# Altium footprint library F4SDR.PcbLib: 69 footprints (part 5 of 5)
Each footprint in its own frame and in the unit in brackets; x right, y up, seen from the top. Pads: shape width x height; smd on the part's side, far side on the other; paste and mask are expansions set on the pad; w line width, h text height; cw(c..) or ccw(c..) is an arc to the next point about the centre after c.
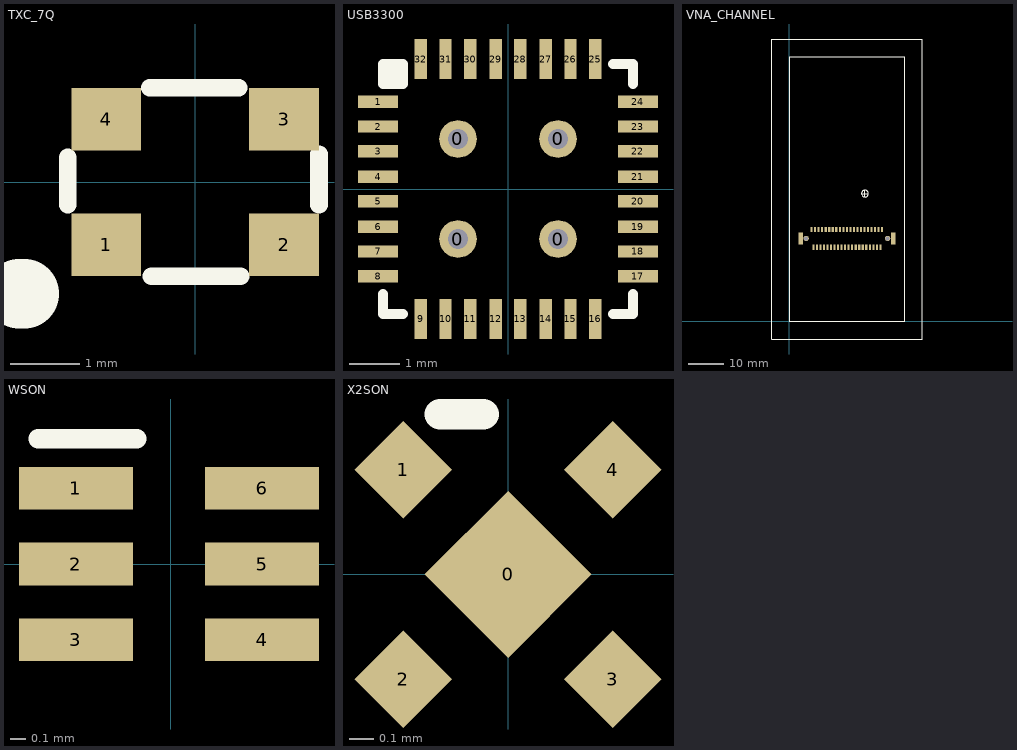
[diagram p4: the footprints below, top view; thin cyan lines are the x and y axes]

## TXC_7Q [mm]
pads (4):
  rect 1x0.9 smd: 1(-1.275,-0.9) 2(1.275,-0.9) 3(1.275,0.9) 4(-1.275,0.9)
Top Overlay:
  lines w0.254: -1.825,-0.325 -1.825,0.35 ; -0.65,1.35 0.625,1.35 ; -0.625,-1.35 0.65,-1.35 ; 1.775,-0.325 1.775,0.4
  lines w1: -2.525,-1.6 -2.45,-1.6

## USB3300 [mm]
pads (36):
  round 0.75 hole 0.4: 0(-1,-1) 0(-1,1) 0(1,-1) 0(1,1)
  rect 0.8x0.25 smd: 1(-2.6,1.75) 2(-2.6,1.25) 3(-2.6,0.75) 4(-2.6,0.25) 5(-2.6,-0.25) 6(-2.6,-0.75) 7(-2.6,-1.25) 8(-2.6,-1.75) 17(2.6,-1.75) 18(2.6,-1.25) 19(2.6,-0.75) 20(2.6,-0.25) 21(2.6,0.25) 22(2.6,0.75) 23(2.6,1.25) 24(2.6,1.75)
  rect 0.25x0.8 smd: 9(-1.75,-2.6) 10(-1.25,-2.6) 11(-0.75,-2.6) 12(-0.25,-2.6) 13(0.25,-2.6) 14(0.75,-2.6) 15(1.25,-2.6) 16(1.75,-2.6) 25(1.75,2.6) 26(1.25,2.6) 27(0.75,2.6) 28(0.25,2.6) 29(-0.25,2.6) 30(-0.75,2.6) 31(-1.25,2.6) 32(-1.75,2.6)
Top Overlay:
  lines w0.203: -2.5,-2.1 -2.5,-2.5 -2.1,-2.5 ; 2.1,-2.5 2.5,-2.5 2.5,-2.1 ; 2.1,2.5 2.5,2.5 2.5,2.1 ; -2.5,2.1 -2.1,2.5 ; -2.5,2.1 -2.1,2.1 ; -2.5,2.1 -2.5,2.5 ; -2.5,2.5 -2.1,2.5 ; -2.5,2.5 -2.1,2.1 ; -2.1,2.1 -2.1,2.5
3D body: height 0.85, standoff 0, extent -2.5,-2.5 2.5,2.5

## VNA_CHANNEL [mm]
pads (45):
  rect 1.3x3.4 smd: 0(3.2,23.5) 0(29.4,23.5)
  round 1.5 hole 1.1: 0(4.75,23.5) 0(27.85,23.5)
  rect 0.6x1.5 smd: 1(6.3,26) 2(7.3,26) 3(8.3,26) 4(9.3,26) 5(10.3,26) 6(11.3,26) 7(12.3,26) 8(13.3,26) 9(14.3,26) 10(15.3,26) 11(16.3,26) 12(17.3,26) 13(18.3,26) 14(19.3,26) 15(20.3,26) 16(21.3,26) 17(22.3,26) 18(23.3,26) 19(24.3,26) 20(25.3,26) 21(26.3,26) 22(25.8,21) 23(24.8,21) 24(23.8,21) 25(22.8,21) 26(21.8,21) 27(20.8,21) 28(19.8,21) 29(18.8,21) 30(17.8,21) 31(16.8,21) 32(15.8,21) 33(14.8,21) 34(13.8,21) 35(12.8,21) 36(11.8,21) 37(10.8,21) 38(9.8,21) 39(8.8,21) 40(7.8,21) 41(6.8,21)
Top Overlay:
  circle w0.254: c21.4,36.2 r0.971
  lines w0.254: -0.025,74.999 0,0 32.659,0 32.659,74.999 -0.009,74.999
  lines w0.33: 20.4,36.2 22.371,36.2 ; 21.4,35.3 21.4,37.2 ; -5,-5 37.659,-5 37.659,79.999 -5,79.999 -5,-5
3D body "DF9-41P-1V.stp": height 0.4, standoff -3.7, extent 3.275,20.7 29.375,26.3

## WSON [mm]
pads (6):
  rect 0.75x0.28 smd: 1(-0.625,0.5) 2(-0.625,0) 3(-0.625,-0.5) 4(0.6,-0.5) 5(0.6,0) 6(0.6,0.5)
Top Overlay:
  lines w0.127: -0.875,0.825 -0.225,0.825
3D body: height 0.7, standoff 0, extent -0.75,-0.75 0.75,0.75

## X2SON [mm]
pads (5):
  rect 0.48x0.48 smd rot 45: 0(0,0)
  rect 0.28x0.28 smd rot 45: 1(-0.425,0.425) 2(-0.425,-0.425) 3(0.425,-0.425) 4(0.425,0.425)
Top Overlay:
  lines w0.127: -0.275,0.65 -0.1,0.65
3D body: height 0.4, standoff 0, extent -0.5,-0.5 0.5,0.5